# Altium schematic symbol library NI USB 6009.SchLib: 1 symbol
Pins are listed as number, name and electrical type; pins without a type are passive.

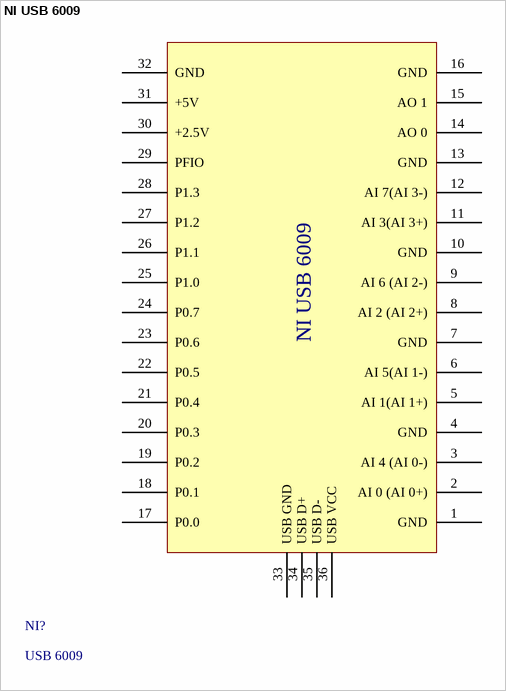
[diagram p0: symbol NI USB 6009]

## NI USB 6009
designator NI?, comment USB 6009
NI IO UNIT
pins: 1 GND, 2 AI 0 (AI 0+), 3 AI 4 (AI 0-), 4 GND, 5 AI 1(AI 1+), 6 AI 5(AI 1-), 7 GND, 8 AI 2 (AI 2+), 9 AI 6 (AI 2-), 10 GND, 11 AI 3(AI 3+), 12 AI 7(AI 3-), 13 GND, 14 AO 0, 15 AO 1, 16 GND, 17 P0.0, 18 P0.1, 19 P0.2, 20 P0.3, 21 P0.4, 22 P0.5, 23 P0.6, 24 P0.7, 25 P1.0, 26 P1.1, 27 P1.2, 28 P1.3, 29 PFIO, 30 +2.5V, 31 +5V, 32 GND, 33 USB GND, 34 USB D+, 35 USB D-, 36 USB VCC